# Altium footprint library POWER.PcbLib: 1 footprints
Each footprint in its own frame and in the unit in brackets; x right, y up, seen from the top. Pads: shape width x height; smd on the part's side, far side on the other; paste and mask are expansions set on the pad; w line width, h text height; cw(c..) or ccw(c..) is an arc to the next point about the centre after c.
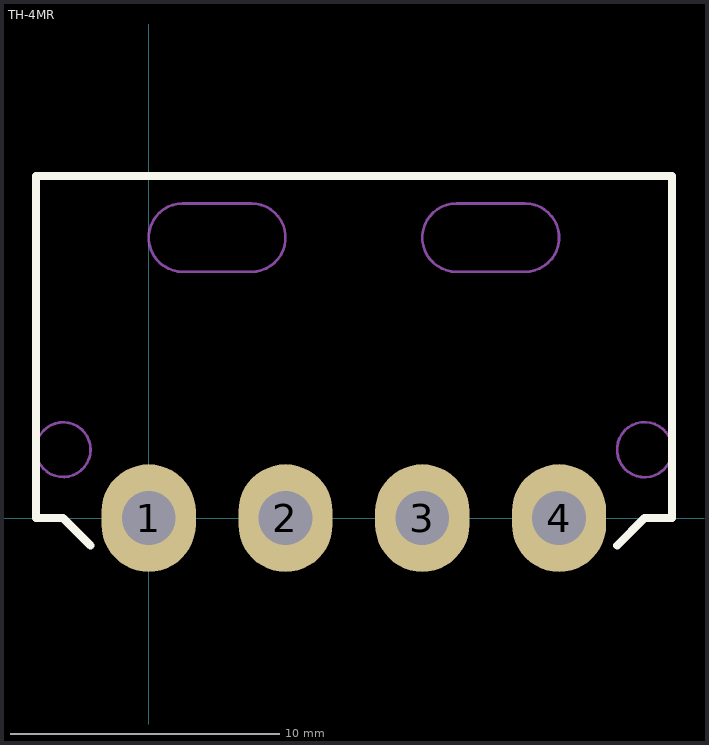
[diagram p0: the footprint, top view; thin cyan lines are the x and y axes]

## TH-4MR [mm] "Вилка TH-4MR"
height 9
pads (4):
  oval 3.5x4 hole 2: 1(0,0) 2(5.08,0) 3(10.16,0) 4(15.24,0)
Top Overlay:
  lines w0.3: -2.159,-1.016 -3.175,0 -4.191,0 -4.191,12.7 19.431,12.7 19.431,0 18.415,0 17.399,-1.016
Board:
  circle w0.1: c18.415,2.54 r1.024
  circle w0.1: c-3.175,2.54 r1.016
  lines w0.1: 1.27,9.144 cw(c1.27,10.414) 1.27,11.684 3.81,11.684 cw(c3.81,10.414) 3.81,9.144 1.27,9.144 ; 11.43,9.144 cw(c11.43,10.414) 11.43,11.684 12.7,11.684 13.97,11.684 cw(c13.97,10.414) 13.97,9.144 11.43,9.144